# Altium footprint library CeleronLib_Connect.PcbLib: 219 footprints (part 5 of 14)
Each footprint in its own frame and in the unit in brackets; x right, y up, seen from the top. Pads: shape width x height; smd on the part's side, far side on the other; paste and mask are expansions set on the pad; w line width, h text height; cw(c..) or ccw(c..) is an arc to the next point about the centre after c.
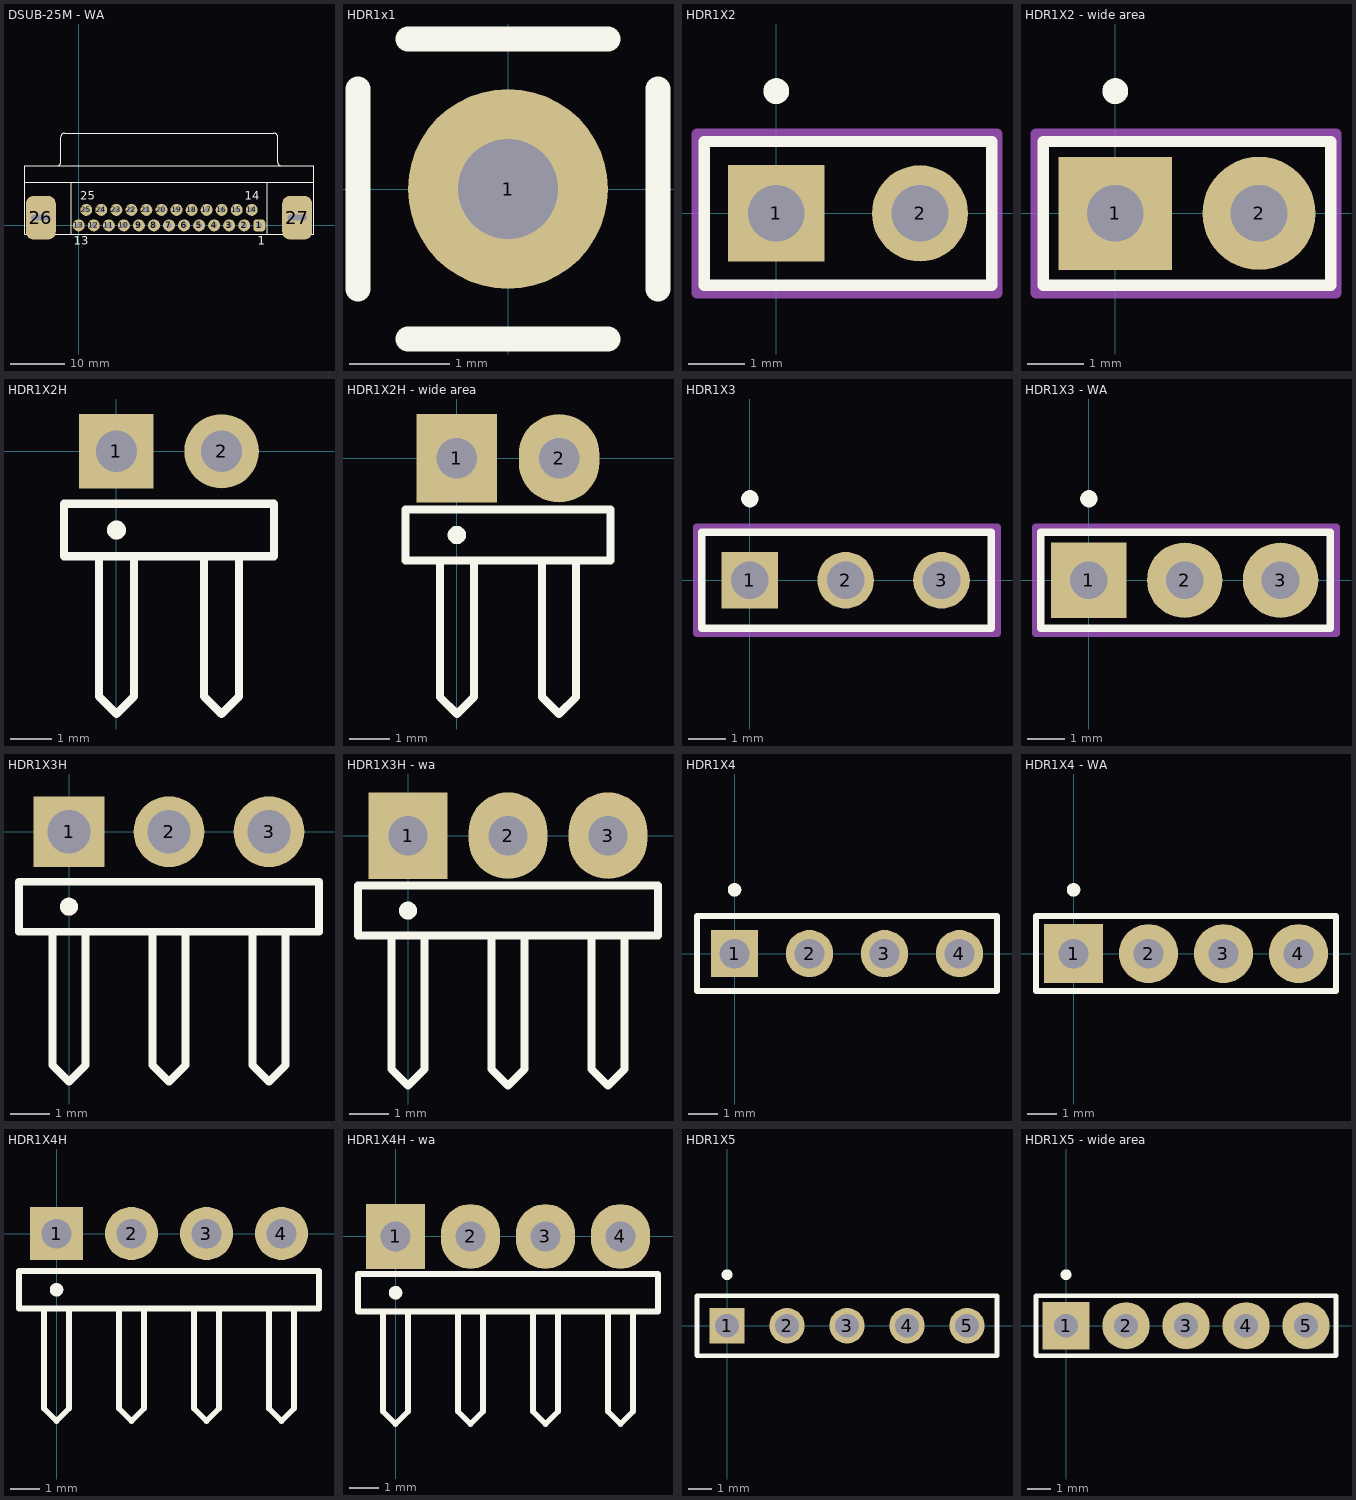
[diagram p4: the footprints below, top view; thin cyan lines are the x and y axes]

## DSUB-25M - WA [mm] "Male"
height 12.5
pads (27):
  rrect50% 2.2x2.2 hole 1: 1(33.132,0)
  round 2.2 hole 1: 2(30.371,0) 3(27.61,0) 4(24.849,0) 5(22.088,0) 6(19.327,0) 7(16.566,0) 8(13.805,0) 9(11.044,0) 10(8.283,0) 11(5.522,0) 12(2.761,0) 13(0,0) 14(31.752,2.84) 15(28.991,2.84) 16(26.23,2.84) 17(23.469,2.84) 18(20.708,2.84) 19(17.946,2.84) 20(15.186,2.84) 21(12.425,2.84) 22(9.664,2.84) 23(6.903,2.84) 24(4.142,2.84) 25(1.381,2.84)
  rrect50% 5.5x8 hole 1 slot 3.5 at 0 deg: 26(-6.96,1.42) 27(40.092,1.42)
Top Overlay:
  lines w0.127: -9.93,7.92 43.17,7.92 ; -3.28,11.62 -3.28,16.22 ; -2.58,16.92 35.82,16.92 ; -1.38,-1.58 -1.38,7.92 ; 34.62,-1.58 34.62,7.92 ; 36.52,11.62 36.52,16.22 ; -9.93,-1.58 43.17,-1.58 43.17,10.92 -9.93,10.92 -9.93,-1.58
  lines w0.2: -3.975,10.925 ccw(c-3.975,11.62) -3.28,11.62 ; -3.275,16.225 cw(c-2.58,16.225) -2.58,16.92 ; 35.82,16.92 cw(c35.82,16.225) 36.515,16.225 ; 36.52,11.62 ccw(c37.215,11.62) 37.215,10.925
  text "13" at -0.889,-3.556 h1.52
  text "1" at 32.893,-3.556 h1.52
  text "25" at 0.256,4.675 h1.52
  text "14" at 30.502,4.675 h1.52
3D body: height 13.57, standoff -3.8, extent -9.947,-1.81 43.153,19.07

## HDR1x1 [mm] "Тестовая точка: подключаемся и измеряем сигнал..."
height 5
pads (1):
  round 2 hole 1: 1(0,0)
Top Overlay:
  lines w0.254: -1.5,-1 -1.5,1 ; -1,-1.5 -0.5,-1.5 1,-1.5 ; -1,1.5 1,1.5 ; 1.5,-1 1.5,1
3D body: height 5.94, standoff -2.94, extent -1.25,-1.25 1.29,1.29

## HDR1X2 [mm] "Connector; Header; 2 Position"
height 8.54
pads (2):
  rect 1.7x1.7 hole 1: 1(0,0)
  round 1.7 hole 1: 2(2.54,0)
Top Overlay:
  circle w0.254: c0,2.159 r0.102
  lines w0.2: -1.27,-1.27 -1.27,1.27 3.81,1.27 3.81,-1.27 -1.27,-1.27
Top Courtyard:
  lines w0.2: -1.4,-1.4 -1.4,1.4 3.9,1.4 3.9,-1.4 -1.4,-1.4
3D body: height 8.45, standoff -2.53, extent -1.24,-1.24 3.84,1.3

## HDR1X2 - wide area [mm] "Connector; Header; 2 Position"
height 8.54
pads (2):
  rect 2x2 hole 1: 1(0,0)
  round 2 hole 1: 2(2.54,0)
Top Overlay:
  circle w0.254: c0,2.159 r0.102
  lines w0.2: -1.27,-1.27 -1.27,1.27 3.81,1.27 3.81,-1.27 -1.27,-1.27
Top Courtyard:
  lines w0.2: -1.4,-1.4 3.9,-1.4 3.9,1.4 -1.4,1.4 -1.4,-1.4
3D body: height 8.45, standoff -2.53, extent -1.24,-1.24 3.84,1.3

## HDR1X2H [mm] "Connector; Header; 2 Position; Right Angle"
height 5
pads (2):
  rect 1.8x1.8 hole 1: 1(0,0)
  round 1.8 hole 1: 2(2.54,0)
Top Overlay:
  circle w0.254: c0,-1.905 r0.102
  lines w0.2: -0.423,-2.54 -0.423,-5.927 0,-6.35 0.423,-5.927 0.423,-2.54 ; 2.117,-2.54 2.117,-5.927 2.54,-6.35 2.963,-5.927 2.963,-2.54 ; -1.27,-2.54 3.81,-2.54 3.81,-1.27 -1.27,-1.27 -1.27,-2.54
3D body: height 2.54, standoff 0, extent -1.27,-11.938 3.81,0.317

## HDR1X2H - wide area [mm] "Connector; Header; 2 Position; Right Angle"
height 5
pads (2):
  rect 2x2.2 hole 1: 1(0,0)
  oval 2x2.2 hole 1: 2(2.54,0)
Top Overlay:
  circle w0.254: c0,-1.905 r0.102
  lines w0.2: -0.423,-2.54 -0.423,-5.927 0,-6.35 0.423,-5.927 0.423,-2.54 ; 2.117,-2.54 2.117,-5.927 2.54,-6.35 2.963,-5.927 2.963,-2.54 ; -1.27,-2.54 -1.27,-1.27 3.81,-1.27 3.81,-2.54 -1.27,-2.54
3D body: height 2.54, standoff 0, extent -1.27,-11.938 3.81,0.317

## HDR1X3 [mm] "Connector; Header; 3 Position"
height 8.54
pads (3):
  rect 1.5x1.5 hole 1: 1(0,0)
  round 1.5 hole 1: 2(2.54,0) 3(5.08,0)
Top Overlay:
  circle w0.254: c0,2.159 r0.102
  lines w0.2: -1.27,-1.27 -1.27,1.27 6.4,1.27 6.4,-1.27 -1.27,-1.27
Top Courtyard:
  lines w0.2: -1.4,-1.4 -1.4,1.4 6.55,1.4 6.55,-1.4 -1.4,-1.4
3D body: height 8.2, standoff -3, extent -1.16,-1.2 6.46,1.298

## HDR1X3 - WA [mm] "Connector; Header; 3 Position"
height 8.54
pads (3):
  rect 2x2 hole 1: 1(0,0)
  round 2 hole 1: 2(2.54,0) 3(5.08,0)
Top Overlay:
  circle w0.254: c0,2.159 r0.102
  lines w0.2: -1.27,-1.27 -1.27,1.27 6.4,1.27 6.4,-1.27 -1.27,-1.27
Top Courtyard:
  lines w0.2: -1.4,-1.4 -1.4,1.4 6.55,1.4 6.55,-1.4 -1.4,-1.4
3D body: height 8.2, standoff -3, extent -1.16,-1.2 6.46,1.298

## HDR1X3H [mm] "Connector; Header; 3 Position; Right Angle"
height 5
pads (3):
  rect 1.8x1.8 hole 1.1: 1(0,0)
  round 1.8 hole 1.1: 2(2.54,0) 3(5.08,0)
Top Overlay:
  circle w0.254: c0,-1.905 r0.102
  lines w0.2: -0.423,-2.54 -0.423,-5.927 0,-6.35 0.423,-5.927 0.423,-2.54 ; 2.117,-2.54 2.117,-5.927 2.54,-6.35 2.963,-5.927 2.963,-2.54 ; 4.657,-2.54 4.657,-5.927 5.08,-6.35 5.503,-5.927 5.503,-2.54 ; -1.27,-2.54 -1.27,-1.27 6.35,-1.27 6.35,-2.54 -1.27,-2.54
3D body: height 2.54, standoff 0, extent -1.27,-11.874 6.35,0.381

## HDR1X3H - wa [mm] "Connector; Header; 3 Position; Right Angle"
height 5
pads (3):
  rect 2x2.2 hole 1: 1(0,0)
  oval 2x2.2 hole 1: 2(2.54,0) 3(5.08,0)
Top Overlay:
  circle w0.254: c0,-1.905 r0.102
  lines w0.2: -0.423,-2.54 -0.423,-5.927 0,-6.35 0.423,-5.927 0.423,-2.54 ; 2.117,-2.54 2.117,-5.927 2.54,-6.35 2.963,-5.927 2.963,-2.54 ; 4.657,-2.54 4.657,-5.927 5.08,-6.35 5.503,-5.927 5.503,-2.54 ; -1.27,-2.54 6.35,-2.54 6.35,-1.27 -1.27,-1.27 -1.27,-2.54
3D body: height 2.54, standoff 0, extent -1.27,-11.874 6.35,0.381

## HDR1X4 [mm] "Разъем двухрядный, шаг 2,54 мм."
height 8.54
pads (4):
  rect 1.6x1.6 hole 1: 1(0,0)
  round 1.6 hole 1: 2(2.54,0) 3(5.08,0) 4(7.62,0)
Top Overlay:
  circle w0.254: c0,2.159 r0.102
  lines w0.2: -1.27,-1.27 8.89,-1.27 8.89,1.27 -1.27,1.27 -1.27,-1.27
3D body: height 8.61, standoff -2.99, extent -1.15,-1.242 9.01,1.256

## HDR1X4 - WA [mm] "Разъем двухрядный, шаг 2,54 мм."
height 8.54
pads (4):
  rect 2x2 hole 1: 1(0,0)
  round 2 hole 1: 2(2.54,0) 3(5.08,0) 4(7.62,0)
Top Overlay:
  circle w0.254: c0,2.159 r0.102
  lines w0.2: -1.27,-1.27 -1.27,1.27 8.89,1.27 8.89,-1.27 -1.27,-1.27
3D body: height 8.61, standoff -2.99, extent -1.15,-1.242 9.01,1.256

## HDR1X4H [mm] "Connector; Header; 4 Position; Right Angle"
height 5
pads (4):
  rect 1.8x1.8 hole 1: 1(0,0)
  round 1.8 hole 1: 2(2.54,0) 3(5.08,0) 4(7.62,0)
Top Overlay:
  circle w0.254: c0,-1.905 r0.102
  lines w0.2: -0.423,-2.54 -0.423,-5.927 0,-6.35 0.423,-5.927 0.423,-2.54 ; 2.117,-2.54 2.117,-5.927 2.54,-6.35 2.963,-5.927 2.963,-2.54 ; 4.657,-2.54 4.657,-5.927 5.08,-6.35 5.503,-5.927 5.503,-2.54 ; 7.197,-2.54 7.197,-5.927 7.62,-6.35 8.043,-5.927 8.043,-2.54 ; -1.27,-2.54 -1.27,-1.27 8.89,-1.27 8.89,-2.54 -1.27,-2.54
3D body: height 2.54, standoff 0, extent -1.27,-11.938 8.89,0.317

## HDR1X4H - wa [mm] "Connector; Header; 4 Position; Right Angle"
height 5
pads (4):
  rect 2x2.2 hole 1: 1(0,0)
  oval 2x2.2 hole 1: 2(2.54,0) 3(5.08,0) 4(7.62,0)
Top Overlay:
  circle w0.254: c0,-1.905 r0.102
  lines w0.2: -0.423,-2.54 -0.423,-5.927 0,-6.35 0.423,-5.927 0.423,-2.54 ; 2.117,-2.54 2.117,-5.927 2.54,-6.35 2.963,-5.927 2.963,-2.54 ; 4.657,-2.54 4.657,-5.927 5.08,-6.35 5.503,-5.927 5.503,-2.54 ; 7.197,-2.54 7.197,-5.927 7.62,-6.35 8.043,-5.927 8.043,-2.54 ; -1.27,-2.54 8.89,-2.54 8.89,-1.27 -1.27,-1.27 -1.27,-2.54
3D body: height 2.54, standoff 0, extent -1.27,-11.938 8.89,0.317

## HDR1X5 [mm] "Connector; Header; 5 Position"
height 8.54
pads (5):
  rect 1.5x1.5 hole 1: 1(0,0)
  round 1.5 hole 1: 2(2.54,0) 3(5.08,0) 4(7.62,0) 5(10.16,0)
Top Overlay:
  circle w0.254: c0,2.159 r0.102
  lines w0.2: -1.27,-1.27 11.43,-1.27 11.43,1.27 -1.27,1.27 -1.27,-1.27
3D body: height 8.2, standoff -3, extent -1.16,-1.2 6.46,1.298
3D body: height 8.2, standoff -3, extent 3.92,-1.2 11.54,1.298

## HDR1X5 - wide area [mm] "Connector; Header; 5 Position"
height 8.54
pads (5):
  rect 2x2 hole 1: 1(0,0)
  round 2 hole 1: 2(2.54,0) 3(5.08,0) 4(7.62,0) 5(10.16,0)
Top Overlay:
  circle w0.254: c0,2.159 r0.102
  lines w0.2: -1.27,-1.27 -1.27,1.27 11.43,1.27 11.43,-1.27 -1.27,-1.27
3D body: height 8.2, standoff -3, extent 3.92,-1.2 11.54,1.298
3D body: height 8.2, standoff -3, extent -1.16,-1.2 6.46,1.298